# EAGLE library part PIC24FJXXGB002 (library pic24gagb)
PIC24FJXXGB002
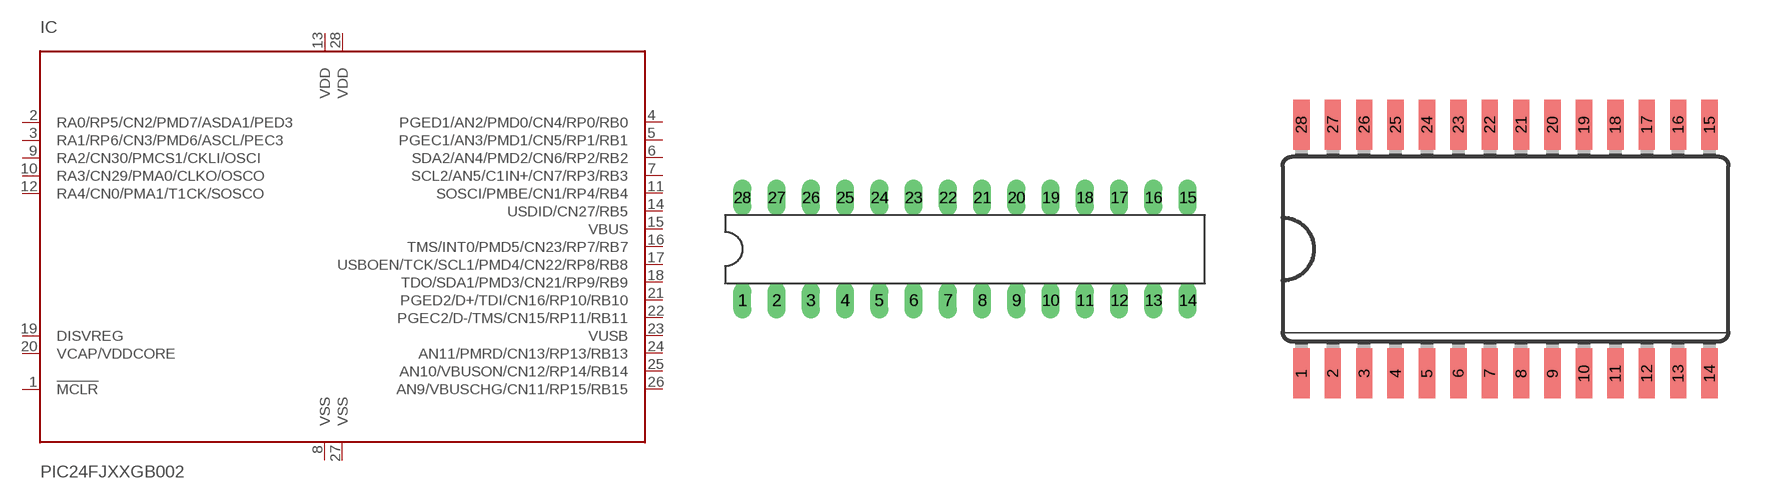
[diagram p5: symbol with the pads of DIL28-3; footprints DIL28-3, SO28W]

Designator prefix IC

## PIC24FJXXGB002/SP  [DIL28-3]
1  !MCLR  in
2  RA0/RP5/CN2/PMD7/ASDA1/PED3
3  RA1/RP6/CN3/PMD6/ASCL/PEC3
4  PGED1/AN2/PMD0/CN4/RP0/RB0
5  PGEC1/AN3/PMD1/CN5/RP1/RB1
6  SDA2/AN4/PMD2/CN6/RP2/RB2
7  SCL2/AN5/C1IN+/CN7/RP3/RB3
8  VSS  pwr
9  RA2/CN30/PMCS1/CKLI/OSCI
10  RA3/CN29/PMA0/CLKO/OSCO
11  SOSCI/PMBE/CN1/RP4/RB4
12  RA4/CN0/PMA1/T1CK/SOSCO
13  VDD  pwr
14  USDID/CN27/RB5
15  VBUS
16  TMS/INT0/PMD5/CN23/RP7/RB7
17  USBOEN/TCK/SCL1/PMD4/CN22/RP8/RB8
18  TDO/SDA1/PMD3/CN21/RP9/RB9
19  DISVREG  in
20  VCAP/VDDCORE  pwr
21  PGED2/D+/TDI/CN16/RP10/RB10
22  PGEC2/D-/TMS/CN15/RP11/RB11
23  VUSB
24  AN11/PMRD/CN13/RP13/RB13
25  AN10/VBUSON/CN12/RP14/RB14
26  AN9/VBUSCHG/CN11/RP15/RB15
27  VSS  pwr
28  VDD  pwr

## PIC24FJXXGB002/SO  [SO28W]
Pads as for DIL28-3

## PIC24FJXXGB002/SS  [SSOP28]
Pads as for DIL28-3

## Footprint DIL28-3 (pad centres in mm)
Dual In Line - 28-Pin SDIP 300 mil
drill 0.813 long: 1 -16.51,-3.81; 2 -13.97,-3.81; 3 -11.43,-3.81; 4 -8.89,-3.81; 5 -6.35,-3.81; 6 -3.81,-3.81; 7 -1.27,-3.81; 8 1.27,-3.81; 9 3.81,-3.81; 10 6.35,-3.81; 11 8.89,-3.81; 12 11.43,-3.81; 13 13.97,-3.81; 14 16.51,-3.81; 15 16.51,3.81; 16 13.97,3.81; 17 11.43,3.81; 18 8.89,3.81; 19 6.35,3.81; 20 3.81,3.81; 21 1.27,3.81; 22 -1.27,3.81; 23 -3.81,3.81; 24 -6.35,3.81; 25 -8.89,3.81; 26 -11.43,3.81; 27 -13.97,3.81; 28 -16.51,3.81

## Footprint SO28W (pad centres in mm)
Wide Small Outline package - 28-Pin SOIC 300 mil
smd 0.66 x 2.032: 1 -8.255,-5.029; 2 -6.985,-5.029; 3 -5.715,-5.029; 4 -4.445,-5.029; 5 -3.175,-5.029; 6 -1.905,-5.029; 7 -0.635,-5.029; 8 0.635,-5.029; 9 1.905,-5.029; 10 3.175,-5.029; 11 4.445,-5.029; 12 5.715,-5.029; 13 6.985,-5.029; 14 8.255,-5.029; 15 8.255,5.029; 16 6.985,5.029; 17 5.715,5.029; 18 4.445,5.029; 19 3.175,5.029; 20 1.905,5.029; 21 0.635,5.029; 22 -0.635,5.029; 23 -1.905,5.029; 24 -3.175,5.029; 25 -4.445,5.029; 26 -5.715,5.029; 27 -6.985,5.029; 28 -8.255,5.029

## Footprint SSOP28 (pad centres in mm)
Shrink Small Outline Package package type SS
smd 0.4 x 1.5: 1 -4.225,-3.625; 2 -3.575,-3.625; 3 -2.925,-3.625; 4 -2.275,-3.625; 5 -1.625,-3.625; 6 -0.975,-3.625; 7 -0.325,-3.625; 8 0.325,-3.625; 9 0.975,-3.625; 10 1.625,-3.625; 11 2.275,-3.625; 12 2.925,-3.625; 13 3.575,-3.625; 14 4.225,-3.625; 15 4.225,3.625; 16 3.575,3.625; 17 2.925,3.625; 18 2.275,3.625; 19 1.625,3.625; 20 0.975,3.625; 21 0.325,3.625; 22 -0.325,3.625; 23 -0.975,3.625; 24 -1.625,3.625; 25 -2.275,3.625; 26 -2.925,3.625; 27 -3.575,3.625; 28 -4.225,3.625